# EAGLE library part AT45DB161E (library Particle)
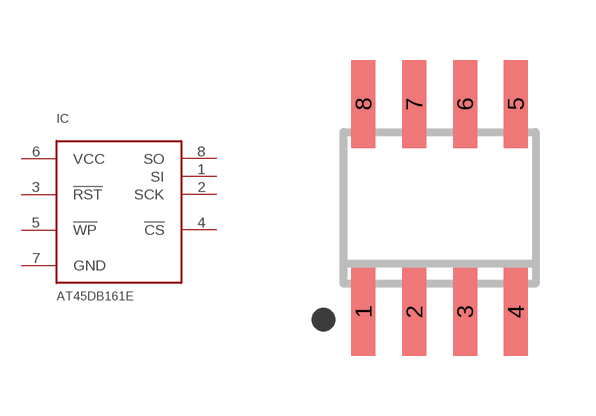
[diagram p12: symbol with the pads of SO08; footprint SO08]

Designator prefix IC

## AT45DB161ESOIC8  [SO08]
1  SI
2  SCK
3  !RST
4  !CS
5  !WP
6  VCC
7  GND
8  SO

## Footprint SO08 (pad centres in mm)
SMALL OUTLINE INTEGRATED CIRCUIT body 3.9 mm/JEDEC MS-012AA
smd 0.6 x 2.2: 1 -1.905,-2.6; 2 -0.635,-2.6; 3 0.635,-2.6; 4 1.905,-2.6; 5 1.905,2.6; 6 0.635,2.6; 7 -0.635,2.6; 8 -1.905,2.6